# Altium schematic symbol library Diods.SchLib: 2 symbols
Pins are listed as number, name and electrical type; pins without a type are passive.

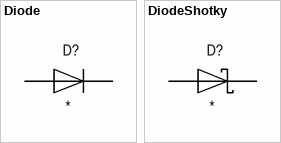
[diagram p0: symbols Diode to DiodeShotky]

## Diode
designator D?
Value: *
footprint DO-41
footprint DO-35
footprint DO-214
pins: 1, 2

## DiodeShotky
designator D?
Value: *
footprint DO-41
footprint DO-35
footprint DO-214
pins: 1, 2